# Altium integrated library Oscillator - Crystal.IntLib: 422 symbols (part 7 of 7)
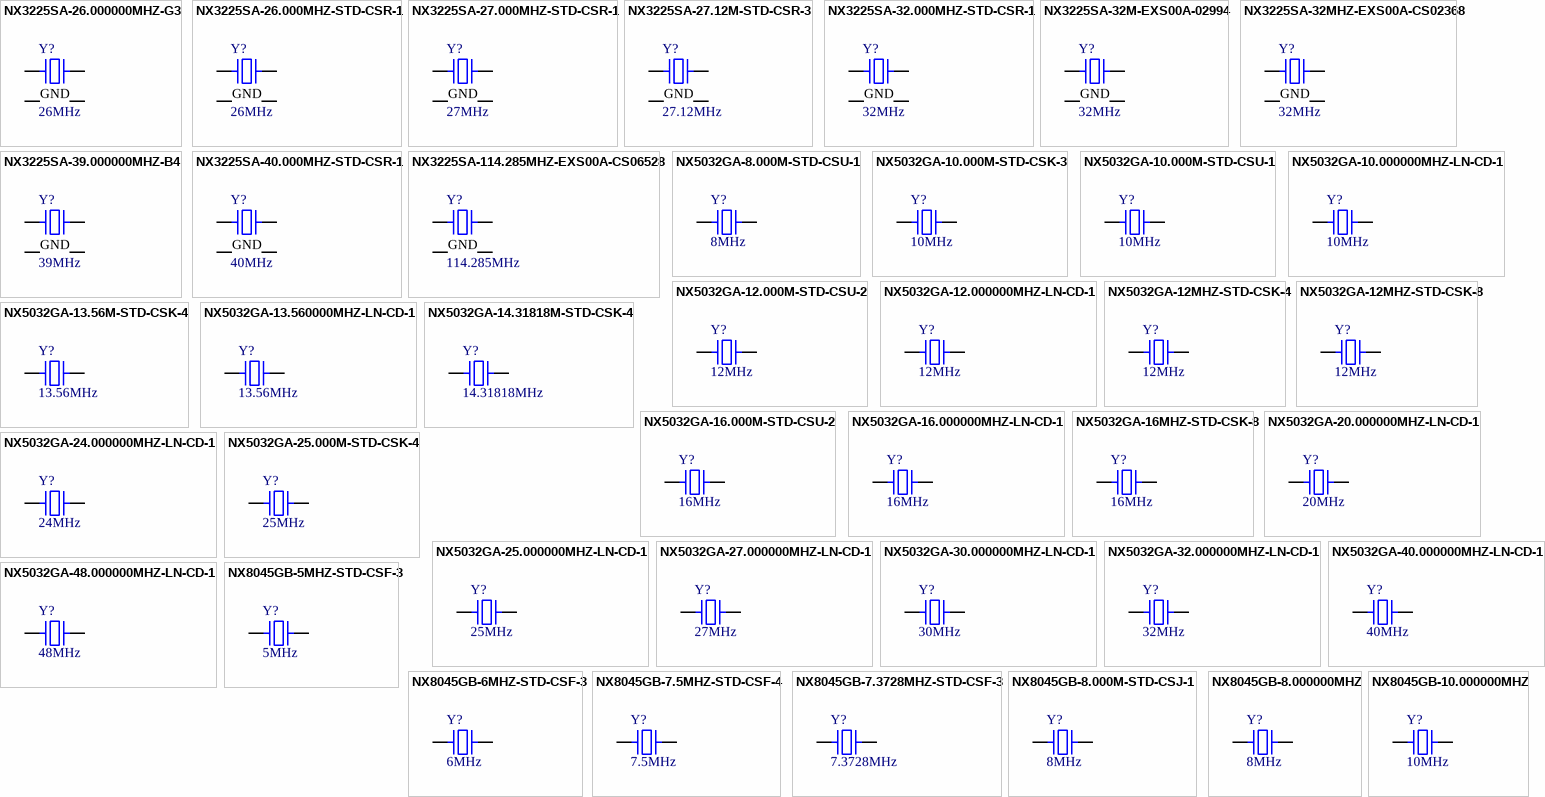
[diagram p16: symbols NX3225SA-26.000000MHZ-G3 to NX8045GB-10.000000MHZ]

## NX8045GB-8.000000MHZ
designator Y?, comment 8MHz
CRYSTAL 8.0000MHZ 8PF SMD; Part Number: NX8045GB-8.000000MHZ; Manufacturer: NDK; Frequency Stability: 50ppm; ESR: 200 Ohm; Operating Mode: Fundamental; PartId: 8853; Supplier 1: Digi-Key; Supplier Part Number 1: 644-1018-2-ND; ComponentLink1Description: Datasheet; ComponentLink1URL: http://media.digikey.com/pdf/Data%20Sheets/NDK%20PDFs/NX8045GB.pdf; ComponentLink2Description: Digi-Key Listing; ComponentLink2URL: https://www.digikey.com/product-detail/en/NX8045GB-8.000000MHZ/644-1018-2-ND/1128800; Price: 0,2992; Type: MHz Crystal; Device Package: 2-SMD, No Lead (DFN, LCC); Series: NX8045GB; Frequency: 8MHz; Frequency Tolerance: 50ppm; Load Capacitance: 8pF
footprint NDK NX8045GB
pins: 1, 2

## NX8045GB-10.000000MHZ
designator Y?, comment 10MHz
CRYSTAL 10.0000MHZ 8PF SMD; Part Number: NX8045GB-10.000000MHZ; Manufacturer: NDK; Frequency Stability: 50ppm; ESR: 100 Ohm; Operating Mode: Fundamental; PartId: 8856; Supplier 1: Digi-Key; Supplier Part Number 1: 644-1019-2-ND; ComponentLink1Description: Datasheet; ComponentLink1URL: http://media.digikey.com/pdf/Data%20Sheets/NDK%20PDFs/NX8045GB.pdf; ComponentLink2Description: Digi-Key Listing; ComponentLink2URL: https://www.digikey.com/product-detail/en/NX8045GB-10.000000MHZ/644-1019-2-ND/1128801; Price: 0,2992; Type: MHz Crystal; Device Package: 2-SMD, No Lead (DFN, LCC); Series: NX8045GB; Frequency: 10MHz; Frequency Tolerance: 50ppm; Load Capacitance: 8pF
footprint NDK NX8045GB
pins: 1, 2

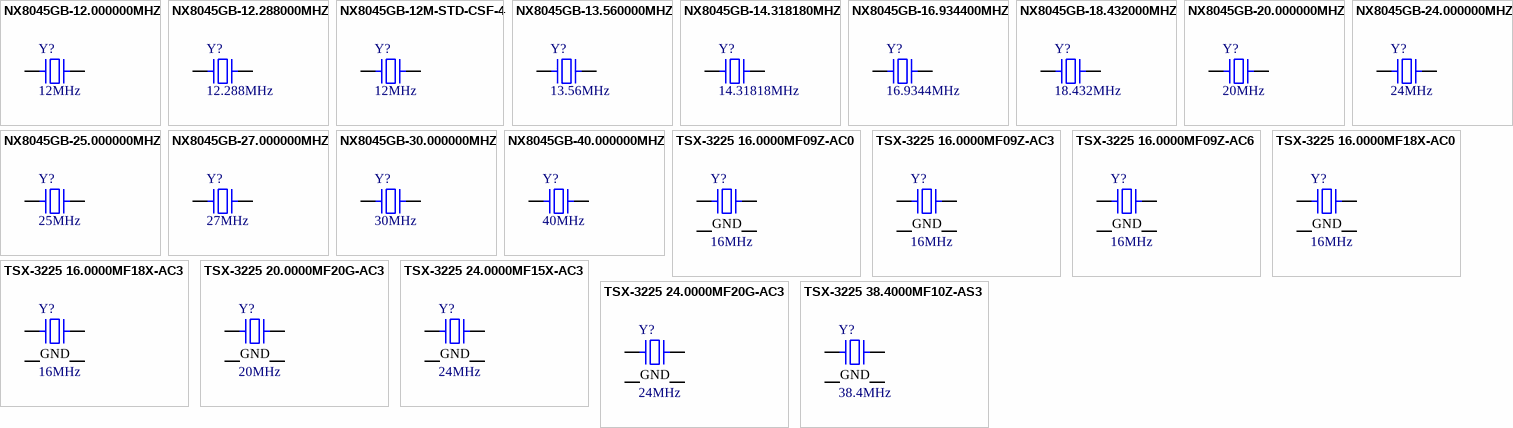
[diagram p10: symbols NX8045GB-12.000000MHZ to TSX-3225 38.4000MF10Z-AS3]

## NX8045GB-12.000000MHZ
designator Y?, comment 12MHz
CRYSTAL 12.0000MHZ 8PF SMD; Part Number: NX8045GB-12.000000MHZ; Manufacturer: NDK; Frequency Stability: 50ppm; ESR: 80 Ohm; Operating Mode: Fundamental; PartId: 8854; Supplier 1: Digi-Key; Supplier Part Number 1: 644-1020-2-ND; ComponentLink1Description: Datasheet; ComponentLink1URL: http://media.digikey.com/pdf/Data%20Sheets/NDK%20PDFs/NX8045GB.pdf; ComponentLink2Description: Digi-Key Listing; ComponentLink2URL: https://www.digikey.com/product-detail/en/NX8045GB-12.000000MHZ/644-1020-2-ND/1128802; Price: 0,2992; Type: MHz Crystal; Device Package: 2-SMD, No Lead (DFN, LCC); Series: NX8045GB; Frequency: 12MHz; Frequency Tolerance: 50ppm; Load Capacitance: 8pF
footprint NDK NX8045GB
pins: 1, 2

## NX8045GB-12.288000MHZ
designator Y?, comment 12.288MHz
CRYSTAL 12.2880MHZ 8PF SMD; Part Number: NX8045GB-12.288000MHZ; Manufacturer: NDK; Frequency Stability: 50ppm; ESR: 80 Ohm; Operating Mode: Fundamental; PartId: 8863; Supplier 1: Digi-Key; Supplier Part Number 1: 644-1021-2-ND; ComponentLink1Description: Datasheet; ComponentLink1URL: http://media.digikey.com/pdf/Data%20Sheets/NDK%20PDFs/NX8045GB.pdf; ComponentLink2Description: Digi-Key Listing; ComponentLink2URL: https://www.digikey.com/product-detail/en/NX8045GB-12.288000MHZ/644-1021-2-ND/1128803; Price: 0,2992; Type: MHz Crystal; Device Package: 2-SMD, No Lead (DFN, LCC); Series: NX8045GB; Frequency: 12.288MHz; Frequency Tolerance: 50ppm; Load Capacitance: 8pF
footprint NDK NX8045GB
pins: 1, 2

## NX8045GB-12M-STD-CSF-4
designator Y?, comment 12MHz
CRYSTAL 12.0000MHZ 8PF SMD; Part Number: NX8045GB-12M-STD-CSF-4; Manufacturer: NDK; Frequency Stability: 30ppm; Frequency Tolerance: 20ppm; ESR: 80 Ohm; Operating Mode: Fundamental; PartId: 8864; Supplier 1: Digi-Key; Supplier Part Number 1: 644-1248-2-ND; ComponentLink1Description: Datasheet; ComponentLink1URL: http://www.ndk.com/images/products/catalog/c_NX8045GB-STD-CSF-4_e.pdf; ComponentLink2Description: Digi-Key Listing; ComponentLink2URL: https://www.digikey.com/product-detail/en/NX8045GB-12M-STD-CSF-4/644-1248-2-ND/4914461; Price: 0,3392; Type: MHz Crystal; Device Package: 2-SMD, No Lead (DFN, LCC); Series: NX8045GB; Frequency: 12MHz; Load Capacitance: 8pF
footprint NDK NX8045GB
pins: 1, 2

## NX8045GB-13.560000MHZ
designator Y?, comment 13.56MHz
CRYSTAL 13.5600MHZ 8PF SMD; Part Number: NX8045GB-13.560000MHZ; Manufacturer: NDK; Frequency Stability: 50ppm; ESR: 50 Ohm; Operating Mode: Fundamental; PartId: 8869; Supplier 1: Digi-Key; Supplier Part Number 1: 644-1022-2-ND; ComponentLink1Description: Datasheet; ComponentLink1URL: http://media.digikey.com/pdf/Data%20Sheets/NDK%20PDFs/NX8045GB.pdf; ComponentLink2Description: Digi-Key Listing; ComponentLink2URL: https://www.digikey.com/product-detail/en/NX8045GB-13.560000MHZ/644-1022-2-ND/1128804; Price: 0,2992; Type: MHz Crystal; Device Package: 2-SMD, No Lead (DFN, LCC); Series: NX8045GB; Frequency: 13.56MHz; Frequency Tolerance: 50ppm; Load Capacitance: 8pF
footprint NDK NX8045GB
pins: 1, 2

## NX8045GB-14.318180MHZ
designator Y?, comment 14.31818MHz
CRYSTAL 14.31818MHZ 8PF SMD; Part Number: NX8045GB-14.318180MHZ; Manufacturer: NDK; Frequency Stability: 50ppm; ESR: 50 Ohm; Operating Mode: Fundamental; PartId: 8868; Supplier 1: Digi-Key; Supplier Part Number 1: 644-1023-2-ND; ComponentLink1Description: Datasheet; ComponentLink1URL: http://media.digikey.com/pdf/Data%20Sheets/NDK%20PDFs/NX8045GB.pdf; ComponentLink2Description: Digi-Key Listing; ComponentLink2URL: https://www.digikey.com/product-detail/en/NX8045GB-14.318180MHZ/644-1023-2-ND/1128805; Price: 0,2992; Type: MHz Crystal; Device Package: 2-SMD, No Lead (DFN, LCC); Series: NX8045GB; Frequency: 14.31818MHz; Frequency Tolerance: 50ppm; Load Capacitance: 8pF
footprint NDK NX8045GB
pins: 1, 2

## NX8045GB-16.934400MHZ
designator Y?, comment 16.9344MHz
CRYSTAL 16.9344MHZ 8PF SMD; Part Number: NX8045GB-16.934400MHZ; Manufacturer: NDK; Frequency Stability: 50ppm; ESR: 50 Ohm; Operating Mode: Fundamental; PartId: 8858; Supplier 1: Digi-Key; Supplier Part Number 1: 644-1024-2-ND; ComponentLink1Description: Datasheet; ComponentLink1URL: http://media.digikey.com/pdf/Data%20Sheets/NDK%20PDFs/NX8045GB.pdf; ComponentLink2Description: Digi-Key Listing; ComponentLink2URL: https://www.digikey.com/product-detail/en/NX8045GB-16.934400MHZ/644-1024-2-ND/1128806; Price: 0,2992; Type: MHz Crystal; Device Package: 2-SMD, No Lead (DFN, LCC); Series: NX8045GB; Frequency: 16.9344MHz; Frequency Tolerance: 50ppm; Load Capacitance: 8pF
footprint NDK NX8045GB
pins: 1, 2

## NX8045GB-18.432000MHZ
designator Y?, comment 18.432MHz
CRYSTAL 18.4320MHZ 8PF SMD; Part Number: NX8045GB-18.432000MHZ; Manufacturer: NDK; Frequency Stability: 50ppm; ESR: 50 Ohm; Operating Mode: Fundamental; PartId: 8857; Supplier 1: Digi-Key; Supplier Part Number 1: 644-1025-2-ND; ComponentLink1Description: Datasheet; ComponentLink1URL: http://media.digikey.com/pdf/Data%20Sheets/NDK%20PDFs/NX8045GB.pdf; ComponentLink2Description: Digi-Key Listing; ComponentLink2URL: https://www.digikey.com/product-detail/en/NX8045GB-18.432000MHZ/644-1025-2-ND/1128807; Price: 0,2992; Type: MHz Crystal; Device Package: 2-SMD, No Lead (DFN, LCC); Series: NX8045GB; Frequency: 18.432MHz; Frequency Tolerance: 50ppm; Load Capacitance: 8pF
footprint NDK NX8045GB
pins: 1, 2

## NX8045GB-20.000000MHZ
designator Y?, comment 20MHz
CRYSTAL 20.0000MHZ 8PF SMD; Part Number: NX8045GB-20.000000MHZ; Manufacturer: NDK; Frequency Stability: 50ppm; ESR: 50 Ohm; Operating Mode: Fundamental; PartId: 8859; Supplier 1: Digi-Key; Supplier Part Number 1: 644-1026-2-ND; ComponentLink1Description: Datasheet; ComponentLink1URL: http://media.digikey.com/pdf/Data%20Sheets/NDK%20PDFs/NX8045GB.pdf; ComponentLink2Description: Digi-Key Listing; ComponentLink2URL: https://www.digikey.com/product-detail/en/NX8045GB-20.000000MHZ/644-1026-2-ND/1128808; Price: 0,2992; Type: MHz Crystal; Device Package: 2-SMD, No Lead (DFN, LCC); Series: NX8045GB; Frequency: 20MHz; Frequency Tolerance: 50ppm; Load Capacitance: 8pF
footprint NDK NX8045GB
pins: 1, 2

## NX8045GB-24.000000MHZ
designator Y?, comment 24MHz
CRYSTAL 24.0000MHZ 8PF SMD; Part Number: NX8045GB-24.000000MHZ; Manufacturer: NDK; Frequency Stability: 50ppm; ESR: 50 Ohm; Operating Mode: Fundamental; PartId: 8860; Supplier 1: Digi-Key; Supplier Part Number 1: 644-1027-2-ND; ComponentLink1Description: Datasheet; ComponentLink1URL: http://media.digikey.com/pdf/Data%20Sheets/NDK%20PDFs/NX8045GB.pdf; ComponentLink2Description: Digi-Key Listing; ComponentLink2URL: https://www.digikey.com/product-detail/en/NX8045GB-24.000000MHZ/644-1027-2-ND/1128809; Price: 0,2992; Type: MHz Crystal; Device Package: 2-SMD, No Lead (DFN, LCC); Series: NX8045GB; Frequency: 24MHz; Frequency Tolerance: 50ppm; Load Capacitance: 8pF
footprint NDK NX8045GB
pins: 1, 2

## NX8045GB-25.000000MHZ
designator Y?, comment 25MHz
CRYSTAL 25.0000MHZ 8PF SMD; Part Number: NX8045GB-25.000000MHZ; Manufacturer: NDK; Frequency Stability: 50ppm; ESR: 50 Ohm; Operating Mode: Fundamental; PartId: 8855; Supplier 1: Digi-Key; Supplier Part Number 1: 644-1028-2-ND; ComponentLink1Description: Datasheet; ComponentLink1URL: http://media.digikey.com/pdf/Data%20Sheets/NDK%20PDFs/NX8045GB.pdf; ComponentLink2Description: Digi-Key Listing; ComponentLink2URL: https://www.digikey.com/product-detail/en/NX8045GB-25.000000MHZ/644-1028-2-ND/1128810; Price: 0,2992; Type: MHz Crystal; Device Package: 2-SMD, No Lead (DFN, LCC); Series: NX8045GB; Frequency: 25MHz; Frequency Tolerance: 50ppm; Load Capacitance: 8pF
footprint NDK NX8045GB
pins: 1, 2

## NX8045GB-27.000000MHZ
designator Y?, comment 27MHz
CRYSTAL 27.0000MHZ 8PF SMD; Part Number: NX8045GB-27.000000MHZ; Manufacturer: NDK; Frequency Stability: 50ppm; ESR: 50 Ohm; Operating Mode: Fundamental; PartId: 8872; Supplier 1: Digi-Key; Supplier Part Number 1: 644-1029-2-ND; ComponentLink1Description: Datasheet; ComponentLink1URL: http://media.digikey.com/pdf/Data%20Sheets/NDK%20PDFs/NX8045GB.pdf; ComponentLink2Description: Digi-Key Listing; ComponentLink2URL: https://www.digikey.com/product-detail/en/NX8045GB-27.000000MHZ/644-1029-2-ND/1128811; Price: 0,2992; Type: MHz Crystal; Device Package: 2-SMD, No Lead (DFN, LCC); Series: NX8045GB; Frequency: 27MHz; Frequency Tolerance: 50ppm; Load Capacitance: 8pF
footprint NDK NX8045GB
pins: 1, 2

## NX8045GB-30.000000MHZ
designator Y?, comment 30MHz
CRYSTAL 30.0000MHZ 8PF SMD; Part Number: NX8045GB-30.000000MHZ; Manufacturer: NDK; Frequency Stability: 50ppm; ESR: 50 Ohm; Operating Mode: Fundamental; PartId: 8870; Supplier 1: Digi-Key; Supplier Part Number 1: 644-1030-2-ND; ComponentLink1Description: Datasheet; ComponentLink1URL: http://media.digikey.com/pdf/Data%20Sheets/NDK%20PDFs/NX8045GB.pdf; ComponentLink2Description: Digi-Key Listing; ComponentLink2URL: https://www.digikey.com/product-detail/en/NX8045GB-30.000000MHZ/644-1030-2-ND/1128812; Price: 0,2992; Type: MHz Crystal; Device Package: 2-SMD, No Lead (DFN, LCC); Series: NX8045GB; Frequency: 30MHz; Frequency Tolerance: 50ppm; Load Capacitance: 8pF
footprint NDK NX8045GB
pins: 1, 2

## NX8045GB-40.000000MHZ
designator Y?, comment 40MHz
CRYSTAL 40.0000MHZ 8PF SMD; Part Number: NX8045GB-40.000000MHZ; Manufacturer: NDK; Frequency Stability: 50ppm; ESR: 50 Ohm; Operating Mode: Fundamental; PartId: 8866; Supplier 1: Digi-Key; Supplier Part Number 1: 644-1032-2-ND; ComponentLink1Description: Datasheet; ComponentLink1URL: http://media.digikey.com/pdf/Data%20Sheets/NDK%20PDFs/NX8045GB.pdf; ComponentLink2Description: Digi-Key Listing; ComponentLink2URL: https://www.digikey.com/product-detail/en/NX8045GB-40.000000MHZ/644-1032-2-ND/1128814; Price: 0,2992; Type: MHz Crystal; Device Package: 2-SMD, No Lead (DFN, LCC); Series: NX8045GB; Frequency: 40MHz; Frequency Tolerance: 50ppm; Load Capacitance: 8pF
footprint NDK NX8045GB
pins: 1, 2

## TSX-3225 16.0000MF09Z-AC0
designator Y?, comment 16MHz
CRYSTAL 16.00 MHZ 9PF SMD; Part Number: TSX-3225 16.0000MF09Z-AC0; Manufacturer: EPSON; Frequency Stability: 9ppm; Frequency Tolerance: 10ppm; ESR: 60 Ohm; Operating Mode: Fundamental; PartId: 8535; Supplier 1: Digi-Key; Supplier Part Number 1: SER4069TR-ND; ComponentLink1Description: Datasheet; ComponentLink1URL: https://support.epson.biz/td/api/doc_check.php?dl=brief_FA-238V_en.pdf; ComponentLink2Description: Digi-Key Listing; ComponentLink2URL: http://www.digikey.com/product-detail/en/TSX-3225%2016.0000MF09Z-AC0/SER4069TR-ND/5260850; Price: 0,32; Type: MHz Crystal; Device Package: 4-SMD, No Lead (DFN, LCC); Frequency: 16MHz; Load Capacitance: 9pF
footprint EPSON TSX-3225
pins: 1, 2 GND, 3, 4 GND

## TSX-3225 16.0000MF09Z-AC3
designator Y?, comment 16MHz
CRYSTAL 16.0000MHZ 9PF SMD; Part Number: TSX-3225 16.0000MF09Z-AC3; Manufacturer: EPSON; Frequency Stability: 9ppm; Frequency Tolerance: 10ppm; ESR: 60 Ohm; Operating Mode: Fundamental; PartId: 8537; Supplier 1: Digi-Key; Supplier Part Number 1: SER3628TR-ND; ComponentLink1Description: Datasheet; ComponentLink1URL: https://support.epson.biz/td/api/doc_check.php?dl=brief_FA-238V_en.pdf; ComponentLink2Description: Digi-Key Listing; ComponentLink2URL: http://www.digikey.com/product-detail/en/TSX-3225%2016.0000MF09Z-AC3/SER3628TR-ND/1802870; Price: 0,4; Type: MHz Crystal; Device Package: 4-SMD, No Lead (DFN, LCC); Frequency: 16MHz; Load Capacitance: 9pF
footprint EPSON TSX-3225
pins: 1, 2 GND, 3, 4 GND

## TSX-3225 16.0000MF09Z-AC6
designator Y?, comment 16MHz
CRYSTAL 16.00 MHZ 9.0PF SMD; Part Number: TSX-3225 16.0000MF09Z-AC6; Manufacturer: EPSON; Frequency Stability: 9ppm; Frequency Tolerance: 10ppm; Load Capacitance: 9pF; ESR: 60 Ohm; Operating Mode: Fundamental; PartId: 8534; Supplier 1: Digi-Key; Supplier Part Number 1: TSX-3225 16.0000MF09Z-AC6-ND; ComponentLink1Description: Datasheet; ComponentLink1URL: https://support.epson.biz/td/api/doc_check.php?dl=brief_FA-238V_en.pdf; ComponentLink2Description: Digi-Key Listing; ComponentLink2URL: http://www.digikey.com/product-detail/en/TSX-3225%2016.0000MF09Z-AC6/TSX-3225%2016.0000MF09Z-AC6-ND/5261217; Price: 0,32; Type: MHz Crystal; Device Package: 4-SMD, No Lead (DFN, LCC); Frequency: 16MHz
footprint EPSON TSX-3225
pins: 1, 2 GND, 3, 4 GND

## TSX-3225 16.0000MF18X-AC0
designator Y?, comment 16MHz
CRYSTAL 16.00 MHZ 9PF SMD; Part Number: TSX-3225 16.0000MF18X-AC0; Manufacturer: EPSON; Frequency Stability: 18ppm; Frequency Tolerance: 10ppm; ESR: 60 Ohm; Operating Mode: Fundamental; PartId: 8536; Supplier 1: Digi-Key; Supplier Part Number 1: SER4070TR-ND; ComponentLink1Description: Datasheet; ComponentLink1URL: https://support.epson.biz/td/api/doc_check.php?dl=brief_FA-238V_en.pdf; ComponentLink2Description: Digi-Key Listing; ComponentLink2URL: http://www.digikey.com/product-detail/en/TSX-3225%2016.0000MF18X-AC0/SER4070TR-ND/5260855; Price: 0,32; Type: MHz Crystal; Device Package: 4-SMD, No Lead (DFN, LCC); Frequency: 16MHz; Load Capacitance: 9pF
footprint EPSON TSX-3225
pins: 1, 2 GND, 3, 4 GND

## TSX-3225 16.0000MF18X-AC3
designator Y?, comment 16MHz
CRYSTAL 16.0000MHZ 9PF SMD; Part Number: TSX-3225 16.0000MF18X-AC3; Manufacturer: EPSON; Frequency Stability: 18ppm; Frequency Tolerance: 10ppm; ESR: 60 Ohm; Operating Mode: Fundamental; PartId: 8538; Supplier 1: Digi-Key; Supplier Part Number 1: SER3636TR-ND; ComponentLink1Description: Datasheet; ComponentLink1URL: https://support.epson.biz/td/api/doc_check.php?dl=brief_FA-238V_en.pdf; ComponentLink2Description: Digi-Key Listing; ComponentLink2URL: http://www.digikey.com/product-detail/en/TSX-3225%2016.0000MF18X-AC3/SER3636TR-ND/1825445; Price: 0,4; Type: MHz Crystal; Device Package: 4-SMD, No Lead (DFN, LCC); Frequency: 16MHz; Load Capacitance: 9pF
footprint EPSON TSX-3225
pins: 1, 2 GND, 3, 4 GND

## TSX-3225 20.0000MF20G-AC3
designator Y?, comment 20MHz
CRYSTAL 20.0000MHZ 9PF SMD; Part Number: TSX-3225 20.0000MF20G-AC3; Manufacturer: EPSON; Frequency Stability: 20ppm; Frequency Tolerance: 10ppm; ESR: 60 Ohm; Operating Mode: Fundamental; PartId: 8539; Supplier 1: Digi-Key; Supplier Part Number 1: SER3629TR-ND; ComponentLink1Description: Datasheet; ComponentLink1URL: https://support.epson.biz/td/api/doc_check.php?dl=brief_FA-238V_en.pdf; ComponentLink2Description: Digi-Key Listing; ComponentLink2URL: http://www.digikey.com/product-detail/en/TSX-3225%2020.0000MF20G-AC3/SER3629TR-ND/1802871; Price: 0,4; Type: MHz Crystal; Device Package: 4-SMD, No Lead (DFN, LCC); Frequency: 20MHz; Load Capacitance: 9pF
footprint EPSON TSX-3225
pins: 1, 2 GND, 3, 4 GND

## TSX-3225 24.0000MF15X-AC3
designator Y?, comment 24MHz
CRYSTAL 24.0000MHZ 9PF SMD; Part Number: TSX-3225 24.0000MF15X-AC3; Manufacturer: EPSON; Frequency Stability: 15ppm; Frequency Tolerance: 10ppm; ESR: 40 Ohm; Operating Mode: Fundamental; PartId: 8540; Supplier 1: Digi-Key; Supplier Part Number 1: SER3635TR-ND; ComponentLink1Description: Datasheet; ComponentLink1URL: https://support.epson.biz/td/api/doc_check.php?dl=brief_FA-238V_en.pdf; ComponentLink2Description: Digi-Key Listing; ComponentLink2URL: http://www.digikey.com/product-detail/en/TSX-3225%2024.0000MF15X-AC3/SER3635TR-ND/1825444; Price: 0,4; Type: MHz Crystal; Device Package: 4-SMD, No Lead (DFN, LCC); Frequency: 24MHz; Load Capacitance: 9pF
footprint EPSON TSX-3225
pins: 1, 2 GND, 3, 4 GND

## TSX-3225 24.0000MF20G-AC3
designator Y?, comment 24MHz
CRYSTAL 24.0000MHZ 9PF SMD; Part Number: TSX-3225 24.0000MF20G-AC3; Manufacturer: EPSON; Frequency Stability: 20ppm; Frequency Tolerance: 10ppm; ESR: 40 Ohm; Operating Mode: Fundamental; PartId: 8541; Supplier 1: Digi-Key; Supplier Part Number 1: SER3634TR-ND; ComponentLink1Description: Datasheet; ComponentLink1URL: https://support.epson.biz/td/api/doc_check.php?dl=brief_FA-238V_en.pdf; ComponentLink2Description: Digi-Key Listing; ComponentLink2URL: http://www.digikey.com/product-detail/en/TSX-3225%2024.0000MF20G-AC3/SER3634TR-ND/1825443; Price: 0,4; Type: MHz Crystal; Device Package: 4-SMD, No Lead (DFN, LCC); Frequency: 24MHz; Load Capacitance: 9pF
footprint EPSON TSX-3225
pins: 1, 2 GND, 3, 4 GND

## TSX-3225 38.4000MF10Z-AS3
designator Y?, comment 38.4MHz
CRYSTAL 38.4000MHZ 8.5PF SMD; Part Number: TSX-3225 38.4000MF10Z-AS3; Manufacturer: EPSON; Frequency Stability: 10ppm; ESR: 40 Ohm; Operating Mode: Fundamental; PartId: 8542; Supplier 1: Digi-Key; Supplier Part Number 1: SER3625TR-ND; ComponentLink1Description: Datasheet; ComponentLink1URL: https://support.epson.biz/td/api/doc_check.php?dl=brief_FA-238V_en.pdf; ComponentLink2Description: Digi-Key Listing; ComponentLink2URL: http://www.digikey.com/product-detail/en/TSX-3225%2038.4000MF10Z-AS3/SER3625TR-ND/1802867; Price: 0,4; Type: MHz Crystal; Device Package: 4-SMD, No Lead (DFN, LCC); Frequency: 38.4MHz; Frequency Tolerance: 10ppm; Load Capacitance: 8.5pF
footprint EPSON TSX-3225
pins: 1, 2 GND, 3, 4 GND